# EAGLE library part HV857 (library HV857)
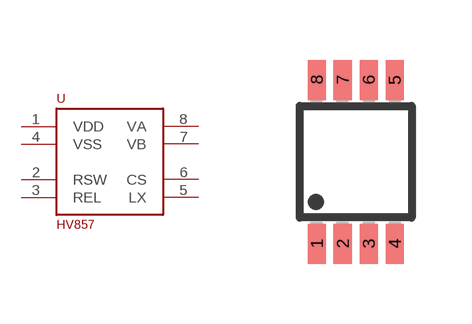
[diagram p0: symbol with the pads of MSOP8; footprint MSOP8]

Designator prefix U

## HV857  [MSOP8]
1  VDD
2  RSW
3  REL
4  VSS
5  LX
6  CS
7  VB
8  VA

## Footprint MSOP8 (pad centres in mm)
Micro Small Outline Package Grid .65mm
smd 0.45 x 1: 1 -0.975,-2.05; 2 -0.325,-2.05; 3 0.325,-2.05; 4 0.975,-2.05; 5 0.975,2.05; 6 0.325,2.05; 7 -0.325,2.05; 8 -0.975,2.05